# EAGLE library part DAC714U (library burr-brown)
16-Bit, DAC
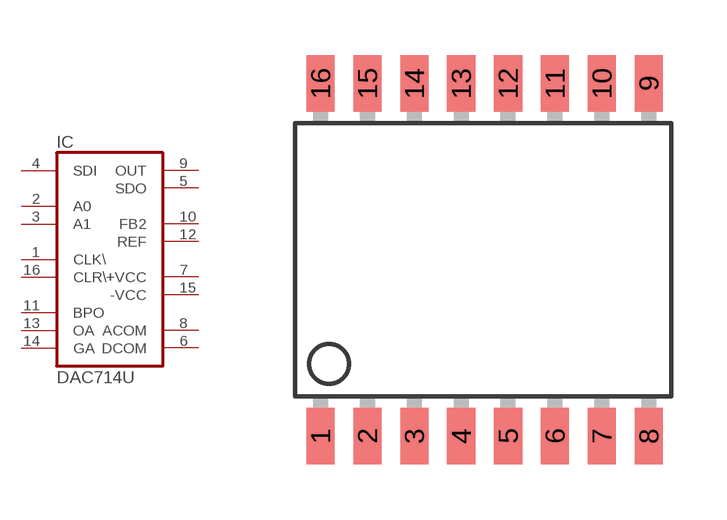
[diagram p188: symbol with the pads of SO16-1; footprint SO16-1]

Designator prefix IC

## DAC714U  [SO16-1]
1  CLK\  in
2  A0  in
3  A1  in
4  SDI  in
5  SDO  out
6  DCOM  pwr
7  +VCC  pwr
8  ACOM  pwr
9  OUT  out
10  FB2  out
11  BPO  pas
12  REF  out
13  OA  pas
14  GA  pas
15  -VCC  pwr
16  CLR\  in

## Footprint SO16-1 (pad centres in mm)
smd 0.762 x 1.524: 1 -4.445,-4.775; 2 -3.175,-4.775; 3 -1.905,-4.775; 4 -0.635,-4.775; 5 0.635,-4.775; 6 1.905,-4.775; 7 3.175,-4.775; 8 4.445,-4.775; 9 4.445,4.775; 10 3.175,4.775; 11 1.905,4.775; 12 0.635,4.775; 13 -0.635,4.775; 14 -1.905,4.775; 15 -3.175,4.775; 16 -4.445,4.775